# Altium footprint library OSC_CSTCE8M00G52-R0.PcbLib: 1 footprints
Each footprint in its own frame and in the unit in brackets; x right, y up, seen from the top. Pads: shape width x height; smd on the part's side, far side on the other; paste and mask are expansions set on the pad; w line width, h text height; cw(c..) or ccw(c..) is an arc to the next point about the centre after c.
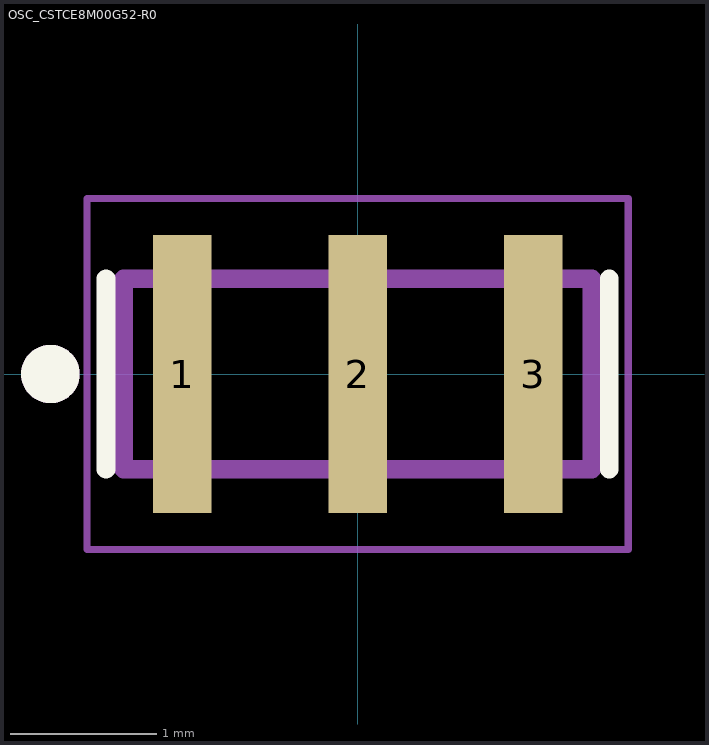
[diagram p0: the footprint, top view; thin cyan lines are the x and y axes]

## OSC_CSTCE8M00G52-R0 [mm]
pads (3):
  rect 0.4x1.9 smd: 1(-1.2,0) 2(0,0) 3(1.2,0)
Top Overlay:
  circle w0.2: c-2.1,0 r0.1
  lines w0.127: -1.72,-0.65 -1.72,0.65 ; 1.72,-0.65 1.72,0.65
Mechanical 13:
  circle w0.2: c-2.1,0 r0.1
  lines w0.127: -1.6,-0.65 1.6,-0.65 1.6,0.65 -1.6,0.65 -1.6,-0.65
Mechanical 15:
  lines w0.05: -1.85,-1.2 1.85,-1.2 1.85,1.2 -1.85,1.2 -1.85,-1.2
3D body "step_temp.STEP": height 0.8, standoff 0, extent -1.6,-0.65 1.6,0.65